# EAGLE library part 74LCX573MTC (library Fairchild_By_element14_Batch_1)
Low Voltage Octal Latch with 5V Tolerant Inputs and Outputs
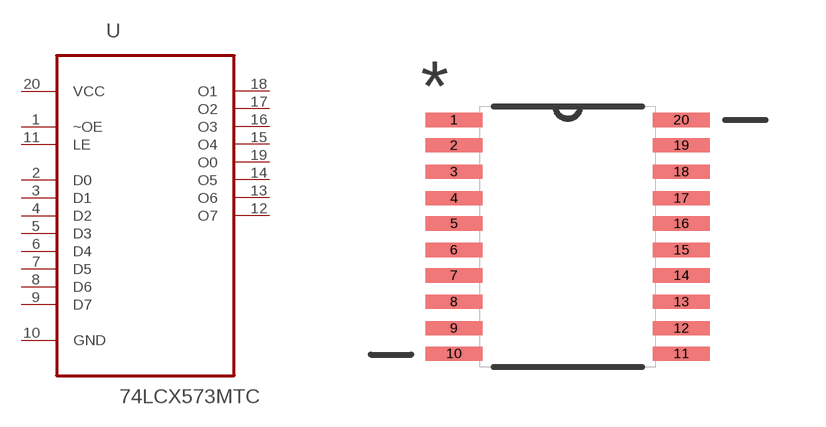
[diagram p100: symbol with the pads of SOP65P640X120-20N; footprint SOP65P640X120-20N]

Designator prefix U

## 74LCX573MTC (MPN: 74LCX573MTC; OC_FARNELL: 1471003; OC_NEWARK: 34C8118; PACKAGE: TSSOP-20; SUPPLIER: FAIRCHILD)  [SOP65P640X120-20N]
1  ~OE  in
2  D0  in
3  D1  in
4  D2  in
5  D3  in
6  D4  in
7  D5  in
8  D6  in
9  D7  in
10  GND  pas
11  LE  in
12  O7  out
13  O6  out
14  O5  out
15  O4  out
16  O3  out
17  O2  out
18  O1  out
19  O0  out
20  VCC  pwr

## Footprint SOP65P640X120-20N (pad centres in mm)
smd 1.422 x 0.356: 1 -2.845,2.921; 2 -2.845,2.286; 3 -2.845,1.626; 4 -2.845,0.965; 5 -2.845,0.33; 6 -2.845,-0.33; 7 -2.845,-0.965; 8 -2.845,-1.626; 9 -2.845,-2.286; 10 -2.845,-2.921; 11 2.845,-2.921; 12 2.845,-2.286; 13 2.845,-1.626; 14 2.845,-0.965; 15 2.845,-0.33; 16 2.845,0.33; 17 2.845,0.965; 18 2.845,1.626; 19 2.845,2.286; 20 2.845,2.921